# EAGLE library part PT4115 (library IC)
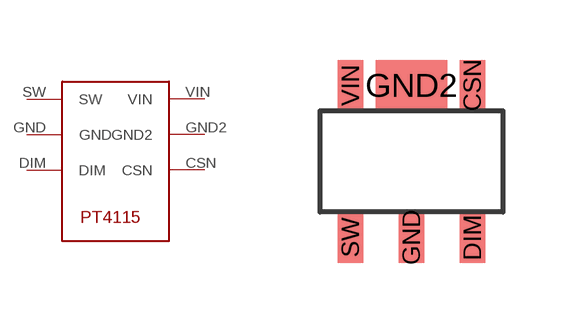
[diagram p188: symbol with the pads of PT4115; footprint PT4115]

Designator prefix -

## PT4115  [PT4115]
CSN  CSN
DIM  DIM
GND  GND
GND2  GND2
SW  SW
VIN  VIN

## Footprint PT4115 (pad centres in mm)
smd 0.635 x 1.27: CSN 1.524,1.905; DIM 1.524,-1.905; GND 0,-1.905; SW -1.524,-1.905; VIN -1.524,1.905
smd 1.778 x 1.27: GND2 0,1.905